# Altium schematic symbol library gsl.SchLib: 32 symbols
Pins are listed as number, name and electrical type; pins without a type are passive.

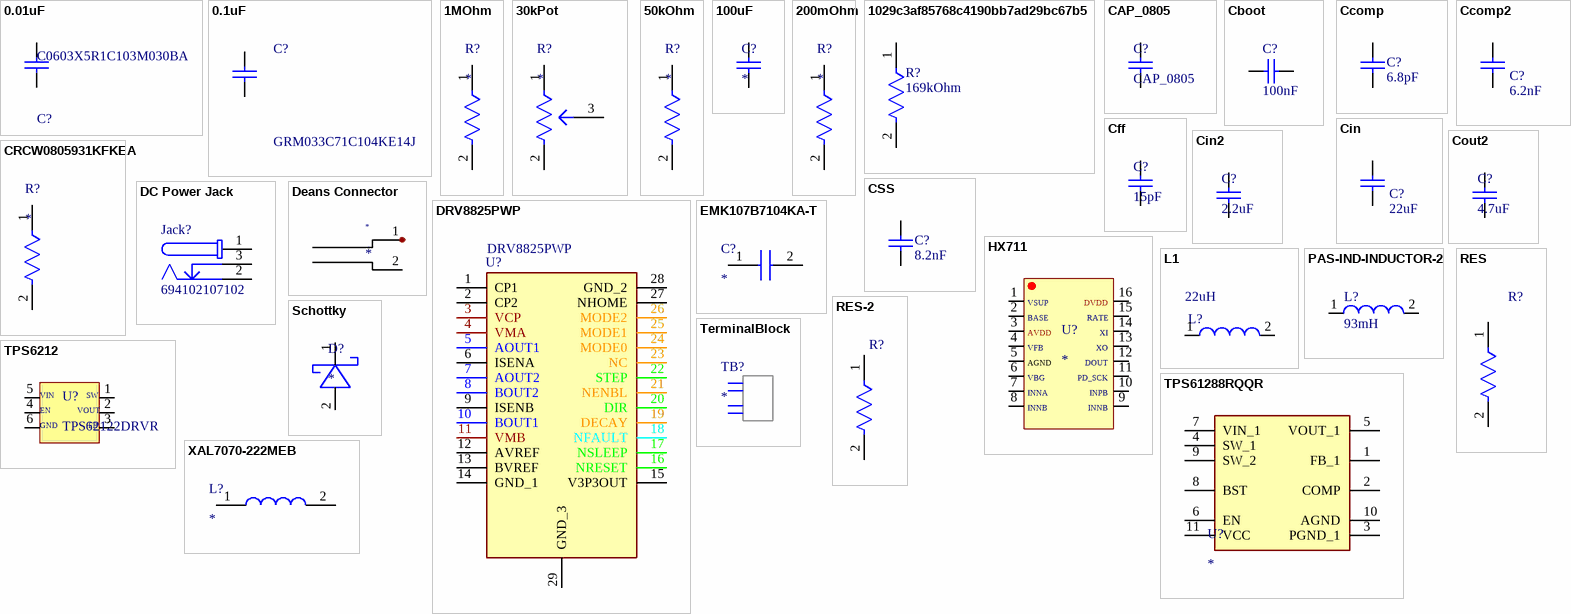
[diagram p0: symbols 0.01uF to XAL7070-222MEB]

## 0.01uF
designator C?, comment C0603X5R1C103M030BA
Multilayer Ceramic Capacitors 10nF ±20% 16V X5R SMD 0201; Length: 0.024inch; Max Operating Temperature: 85°C; Min Operating Temperature: -55°C; Voltage Rating (DC): 16V; Case/Package: 0201; Packaging: Tape and Reel; Lead Free: Lead Free; Mount: Surface Mount; Package Quantity: 15000; Case Code (Imperial): 0201; Width: 0.012inch; RoHS Compliant: Yes; Weight: 6E-06oz; Voltage Rating: 16V; Capacitance: 10nF; Dielectric Material: Ceramic; Height: 0.3mm; Dielectric: X5R; Tolerance: 20%; Thickness: 0.013inch; Case Code (Metric): 0603; Termination: SMD/SMT
footprint FP-C0603-030-0_03-IPC_A
pins: 1, 2

## 0.1uF
designator C?, comment GRM033C71C104KE14J
Manufacturer_Name: Murata Electronics; Geometry.Height: 0.33mm; Mouser Part Number: 81-GRM033C71C104KE4J; Mouser Price/Stock: https://www.mouser.co.uk/ProductDetail/Murata-Electronics/GRM033C71C104KE14J?qs=QzBtWTOodeU72T%252BpeIULSA%3D%3D; Manufacturer_Part_Number: GRM033C71C104KE14J; Datasheet Link: http://www.murata.com/~/media/webrenewal/support/library/catalog/products/capacitor/mlcc/c02e.pdf
footprint CAPC0603X33N
pins: 1, 2

## 1MOhm
designator R?
CRCW04021M00FKEDHP
pins: 1, 2

## 30kPot
designator R?
pins: 1, 2, 3

## 50kOhm
designator R?
pins: 1, 2

## 100uF
designator C?
1210YD107MAT2A
pins: 1, 2

## 200mOhm
designator R?
WSL2512R2000FEA
pins: 1, 2

## 1029c3af85768c4190bb7ad29bc67b5
designator R?, comment 169kOhm
CRCW0402169KFKED; Max Power Dissipation: 63mW; Voltage Rating: 50V; Resistance: 169kR; Temperature Coefficient: 100ppm/°C; Tolerance: 1%; Max Operating Temperature: 155°C; Case/Package: 0402; Depth: 0.5mm; Number of Pins: 2; Lead Free: Lead Free; Radiation Hardening: No; Contact Plating: Tin; Width: 0.02inch; Number of Terminations: 2; Height: 0.35mm; Length: 1mm; Package Quantity: 10; Power Rating: 63mW; Packaging: Tape and Reel; Military Standard: Not; Case Code (Imperial): 0402; Weight: 2.3E-05oz; Voltage Rating (DC): 50V; Case Code (Metric): 1005; Composition: Thick Film; Features: Automotive AEC-Q200; Termination: SMD/SMT; Mount: Surface Mount; Min Operating Temperature: -55°C
footprint FP-CRCW0402-e3-IPC_B
footprint FP-CRCW0402-e3-MFG
footprint FP-CRCW0402-e3-IPC_A
footprint FP-CRCW0402-e3-IPC_C
pins: 1, 2

## CAP_0805
designator C?
Capacitor SMD 0805 Generic
footprint CAP_0805 (Chip Capacitor, 2-Leads, Body 2.00x1.25mm, IPC Medium Density)
pins: 1, 2

## Cboot
designator C?, comment 100nF
GRM155R71A104KA01D; Manufacturer: Murata; Rated Voltage: 10V; Capacitance: 100000pF; Dielectric: X7R; Tolerance (%): ±10%; Manufacturer URL: http://www.murata.com/; Datasheet Version: 02/2016; Datasheet URL: http://search.murata.co.jp/Ceramy/image/img/A01X/G101/ENG/GRM155R71A104KA01-01.pdf; Package Reference: 0402; Package Description: 2-Pin Surface Mount Device, Body 1 x 0.5 mm; Mounting Technology: SurfaceMount; Case Size/Dimension: 0402
footprint CAPC1005X55X25LL05T10 (Chip Capacitor, 2-Leads, Body 1.05x0.55mm, IPC High Density)
footprint CAPC1005X55X25ML05T10 (Chip Capacitor, 2-Leads, Body 1.05x0.55mm, IPC Low Density)
footprint CAPC1005X55X25NL05T10 (Chip Capacitor, 2-Leads, Body 1.05x0.55mm, IPC Medium Density)
pins: 1, 2

## Ccomp
designator C?, comment 6.8pF
06031U6R8BAT2A
pins: 1, 2

## Ccomp2
designator C?, comment 6.2nF
C0603C622J5GACTU; Manufacturer: KEMET; Temperature Characteristic: C0G; Voltage Rating: 50 V; Capacitance: 6,200 pF; Automotive Grade: Grade 1; Material: Ceramic; Value: 6,200 pF; Temperature Coefficient: 30ppm/°C; Tolerance: 0.05; Device Class L1: Passive Components; Temperature Range Low: -55°C; Temperature Range High: +125°C; Height: 0.87mm; ComponentLink2URL: https://api.kemet.com/component-edge/download/datasheet/C0603C100J5GACAUTO.pdf; RoHS: TRUE; Lead Free: Yes; Category: Cap; Package: C0603C-CF; Octopart: https://octopart.com/c0603c622j5gactu-kemet-19757383; Device Class L3: Ceramic Capacitors; Automotive: Yes; Temperature: -55°C to +125°C; Mouser Description: Multilayer Ceramic Capacitors MLCC - SMD/SMT 50volts 6200pF 5% C0G; Digikey Description: Multilayer Ceramic Capacitor, C Series, 6200 Pf, - 5%, C0g / Np0, 50 V, 0603 [1608 Metric] Rohs Compliant: Yes; Device Class L2: Capacitors; Manufacturer Part Number: C0603C622J5GACTU; ComponentLink2Description: Datasheet
footprint FP-C0603C-CF-MFG
footprint FP-C0603C-CF-IPC_C
footprint FP-C0603C-CF-IPC_B
footprint FP-C0603C-CF-IPC_A
pins: 1, 2

## Cff
designator C?, comment 15pF
CC0805JRNPO9BN150
pins: 1, 2

## Cin
designator C?, comment 22uF
GRM32ER61E226KE15L; Manufacturer: Murata Electronics North America; Temperature Characteristic: X5R; Possible Substitute: GRM32ER61E226KE15K; Other Names: 490-3889-2; Material: Ceramic; Voltage - Rated: 25V; Tolerance: 10%; Digikey Description: CAP CER 22UF 25V X5R 1210; Mouser Description: Multilayer Ceramic Capacitors MLCC - SMD/SMT 1210 22uF 25volts X5R 10%; Device Class L2: Capacitors; Height: 2.7mm; Category: Cap; RoHS: TRUE; Operating Temperature: -55°C ~ 85°C; Temperature: -55°C to +85°C; Lead Free: Yes; Package: GRM32; Temperature Range High: +85°C; Package / Case: 1210 (3225 Metric); Standard Package: 1,000; Packaging: Cut Tape (CT); Capacitance: 22uF; Thickness (Max): 0.106" (2.70mm); Value: 22uF; Automotive: No; Device Class L1: Passive Components; Temperature Range Low: -55°C; Size / Dimension: 0.126" L x 0.098" W (3.20mm x 2.50mm); ComponentLink2Description: Datasheet; Device Class L3: Ceramic Capacitors; Temperature Coefficient: X5R; ComponentLink2URL: https://search.murata.co.jp/Ceramy/image/img/A01X/G101/ENG/GRM32ER61E226KE15-01A.pdf; Voltage Rating: 25V; Manufacturer Part Number: GRM32ER61E226KE15L; Octopart: https://octopart.com/grm32er61e226ke15l-murata-197441; Applications: General Purpose; Mounting Type: Surface Mount, MLCC
footprint FP-GRM32-IPC_A
pins: 1, 2

## Cin2
designator C?, comment 2.2uF
C1005X5R1V225K050BC
pins: 1, 2

## Cout2
designator C?, comment 4.7uF
GRM155R61A475MEAAD
pins: 1, 2

## CRCW0805931KFKEA
designator R?
Resistor; Manufacturer_Name: Vishay; Manufacturer_Part_Number: CRCW0805931KFKEA; Datasheet Link: http://www.vishay.com/docs/20035/dcrcwe3.pdf; Height: 0.5mm; Mouser Part Number: 71-CRCW0805-931K-E3; Mouser Price/Stock: https://www.mouser.com/Search/Refine.aspx?Keyword=71-CRCW0805-931K-E3
footprint RESC2012X50N
pins: 1, 2

## CSS
designator C?, comment 8.2nF
GRM155R71C822KA01D; Manufacturer: Murata; Part Number: GRM155R71C822KA01D
footprint CAPC1005X55X25LL05T10 (Chip Capacitor, 2-Leads, Body 1.00x0.50mm, IPC High Density)
pins: 1, 2
1 alternate drawing of the same symbol

## DC Power Jack
designator Jack?, comment 694102107102
NexarPartId: 52645180; Connector Type: Power; Insulation Resistance: 100MΩ; Gender: Male; Current Rating: 5A; Voltage Rating: 18V; Shielding: Unshielded; Mount: Surface Mount; Packaging: Tape and Reel; Max Operating Temperature: 85°C; Color: Black; Contact Plating: Tin; Min Operating Temperature: -40°C; Housing Material: Polyamide; Termination: SMD/SMT; RoHS: Compliant; Contact Gender: Female; REACH SVHC: Unknown; Voltage Rating (DC): 18V; Operating Supply Voltage: 18V; Flammability Rating: UL94 V-0
footprint 694102107102 (DC Power Jack Right Angled Low Profile SMT ?3.9 with 4 soldering pads & pegs)
pins: 1, 2, 3

## Deans Connector
designator *
footprint Deans
pins: 1, 2

## DRV8825PWP
designator U?
2.5A Stepper Motor Driver HTSSOP28 Texas Instruments DRV8825PWP, Stepper Motor Driver, 28-Pin HTSSOP; Geometry.Height: 1.2mm; Mouser Part Number: 595-DRV8825PWP; Mouser Price/Stock: https://www.mouser.co.uk/ProductDetail/Texas-Instruments/DRV8825PWP?qs=L4ss%2FyqpMWT%252BKNufX9tf3Q%3D%3D; Manufacturer_Name: Texas Instruments; Manufacturer_Part_Number: DRV8825PWP; Datasheet Link: http://www.ti.com/lit/ds/symlink/drv8825.pdf
footprint SOP65P640X120-29N
pins: 1 CP1, 2 CP2, 3 VCP, 4 VMA, 5 AOUT1, 6 ISENA, 7 AOUT2, 8 BOUT2, 9 ISENB, 10 BOUT1, 11 VMB, 12 AVREF, 13 BVREF, 14 GND_1, 15 V3P3OUT, 16 NRESET, 17 NSLEEP, 18 NFAULT, 19 DECAY, 20 DIR, 21 NENBL, 22 STEP, 23 NC, 24 MODE0, 25 MODE1, 26 MODE2, 27 NHOME, 28 GND_2, 29 GND_3

## EMK107B7104KA-T
designator C?
Capacitor; Manufacturer_Name: TAIYO YUDEN; Manufacturer_Part_Number: EMK107B7104KA-T; Datasheet Link: http://www.farnell.com/datasheets/746258.pdf; Height: 0.95mm; Mouser Part Number: 963-EMK107B7104KA-T; Mouser Price/Stock: https://www.mouser.co.uk/ProductDetail/TAIYO-YUDEN/EMK107B7104KA-T?qs=I6KAKw0tg2ybqzX8hKPgfw%3D%3D; Arrow Part Number: EMK107B7104KA-T; Arrow Price/Stock: https://www.arrow.com/en/products/emk107b7104ka-t/taiyo-yuden
footprint CAPC1608X95N
pins: 1, 2

## HX711
designator U?
footprint TSOP127P600X160-16N (TSOP, 16-Leads, Body 9.90x3.90mm, Pitch 1.27mm, IPC Medium Density)
pins: 1, 2, 3, 4, 5, 6, 7, 8, 9, 10, 11, 12, 13, 14, 15, 16
text: VSUP; DVDD; BASE; RATE; AVDD; XI; VFB; XO; AGND; DOUT; VBG; PD_SCK; INNA; INPB; INNB

## L1
designator L?, comment 22uH
CBC2012T220M; Current Rating: 190mA; Self Resonant Frequency: 16MHz; DC Resistance (DCR): 4.81R; Tolerance: 20%; Max DC Current: 170mA; Shielding: Unshielded; Test Frequency: 2.52MHz; Core Material: Ferrite; Package Quantity: 3000; Inductance: 22uH; Height - Seated (Max): 0.057inch; Lead Free: Exempt; Width: 0.049inch; Length: 0.079inch; Max Operating Temperature: 105°C; Number of Pins: 2; Height: 1.25mm; Packaging: Tape and Reel; Saturation Current: 170mA; Mount: Surface Mount; Case Code (Metric): 2012; Series: CB; Halogen Free: Halogen Free; Min Operating Temperature: -40°C; Case Code (Imperial): 0805; Case/Package: 0805; Termination: SMD/SMT; RoHS Compliant: Yes; Resistor Type: Wirewound
footprint FP-CB2012-IPC_A
pins: 1, 2

## PAS-IND-INDUCTOR-2
designator L?, comment 93mH
744772390; Inductance: 39.0 ÂµH; ComponentLink1Description: Manufacturer Link; ComponentLink1URL: http://www.we-online.com; PackageDescription: THT Inductor, 2-Leads, Body 7.8 x 7.8 mm; DatasheetVersion: ver 8, Oct-2009; ComponentLink2URL: http://www.we-online.de/katalog/media/pdf/744772390.pdf; PackageReference: WE-TI-L; PackageVersion: 2006; ComponentLink2Description: Datasheet
footprint WE-TI-L (THT Inductor, 2-Leads, Body 7.8x7.8x10.0 mm)
pins: 1, 2

## RES
designator R?, comment 430K 1% 0603(1608)  (value not drawn)
430K 0.1W 1% 0603 (1608 Metric)  SMD; Case-Metric: 1608; Case-EIA: 0603; Value: 430000.00 Ohm; Technology: SMT; Power: 0.1 W; Tolerance: 1 %
footprint RESC0603(1608)_N (Chip Resistor, Body 1.6x0.8mm, IPC Medium Density)
footprint RESC0603(1608)_M (Chip Resistor, Body 1.6x0.8mm, IPC Low Density)
footprint RESC0603(1608)_L (Chip Resistor, Body 1.6x0.8mm, IPC High Density)
pins: 1, 2
1 alternate drawing of the same symbol

## RES-2
designator R?, comment RC0603FR-0782KL  (value not drawn)
Chip Resistor, 82 KOhm, +/- 1%, 0.1 W, -55 to 155 degC, 0603 (1608 Metric), RoHS, Tape and Reel; Manufacturer: Yageo; Temperature Coefficient: 100PPM/C; Unit Weight: 0.000071oz; Voltage Rating: 75V; Resistance: 82kOhms; Power Rating: 100mW; Packaging: Reel; Package Description: 2-Pin Surface Mount Device, Body 1.6 x 0.8 mm; Package / Case: 0603(1608metric); Series: RC; Operating Temperature Range: -55Cto+155C; Brand: Yageo; Case Code - in: 0603; Width: 0.8mm; Height: 0.45mm; Product Category: ThickFilmResistors; Length: 1.6mm; Product: ThickFilmResistorsGeneralPurpose; Manufacturer URL: http://www.yageo.com/; Datasheet URL: http://www.yageo.com/documents/recent/PYu-RC_Group_51_RoHS_L_7.pdf; RoHS: True; Datasheet Version: Rev. 7, 05/2017; Tolerance: 1%; Case Code - mm: 1608; Package Reference: 0603; Mounting Technology: SurfaceMount; Type: GeneralPurposeChipResistorSurfaceMount; Termination Style: SMD/SMT
footprint RESC1608X55X25LL10T15 (Chip Resistor, 2-Leads, Body 1.60x0.80mm, IPC High Density)
footprint RESC1608X55X25ML10T15 (Chip Resistor, 2-Leads, Body 1.70x0.90mm, IPC Low Density)
footprint RESC1608X55X25NL10T15 (Chip Resistor, 2-Leads, Body 1.70x0.90mm, IPC Medium Density)
pins: 1, 2

## Schottky
designator D?
pins: 1  , 2

## TerminalBlock
designator TB?
footprint PHOENIX_1725672
pins: 1, 2, 3, 4

## TPS6212
designator U?, comment TPS62122DRVR
footprint PSON65P200X80_HS-7N (PSON, 6-Leads, Body 2.00x2.00mm, Pitch 0.65mm, Thermal Pad 1.60x0.96mm, IPC Medium Density)
pins: 1, 2, 3, 4, 5, 6
text: VIN; SW; EN; VOUT; GND; FB

## TPS61288RQQR
designator U?
footprint TPS61288RQQR
pins: 1 FB_1, 2 COMP, 3 PGND_1, 4 SW_1, 5 VOUT_1, 6 EN, 7 VIN_1, 8 BST, 9 SW_2, 10 AGND, 11 VCC

## XAL7070-222MEB
designator L?
Inductor; Manufacturer_Name: COILCRAFT; Manufacturer_Part_Number: XAL7070-222MEB; Datasheet Link: https://www.coilcraft.com/xal7070.cfm; Height: 7mm; Mouser Part Number: 994-XAL7070-222MEB; Mouser Price/Stock: https://www.mouser.co.uk/ProductDetail/Coilcraft/XAL7070-222MEB?qs=VJjuEbE9QBOHvtnxhiSHKw%3D%3D
footprint XAL7070332MEB
pins: 1, 2